# Altium schematic symbol library BuckConverter.SchLib: 1 symbol
Pins are listed as number, name and electrical type; pins without a type are passive.

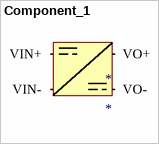
[diagram p0: symbol Component_1]

## Component_1
designator *
pins: 0 VO+, 1 VO-, 2 VIN+, 3 VIN-